# Altium footprint library ThuVien.PcbLib: 14 footprints
Each footprint in its own frame and in the unit in brackets; x right, y up, seen from the top. Pads: shape width x height; smd on the part's side, far side on the other; paste and mask are expansions set on the pad; w line width, h text height; cw(c..) or ccw(c..) is an arc to the next point about the centre after c.
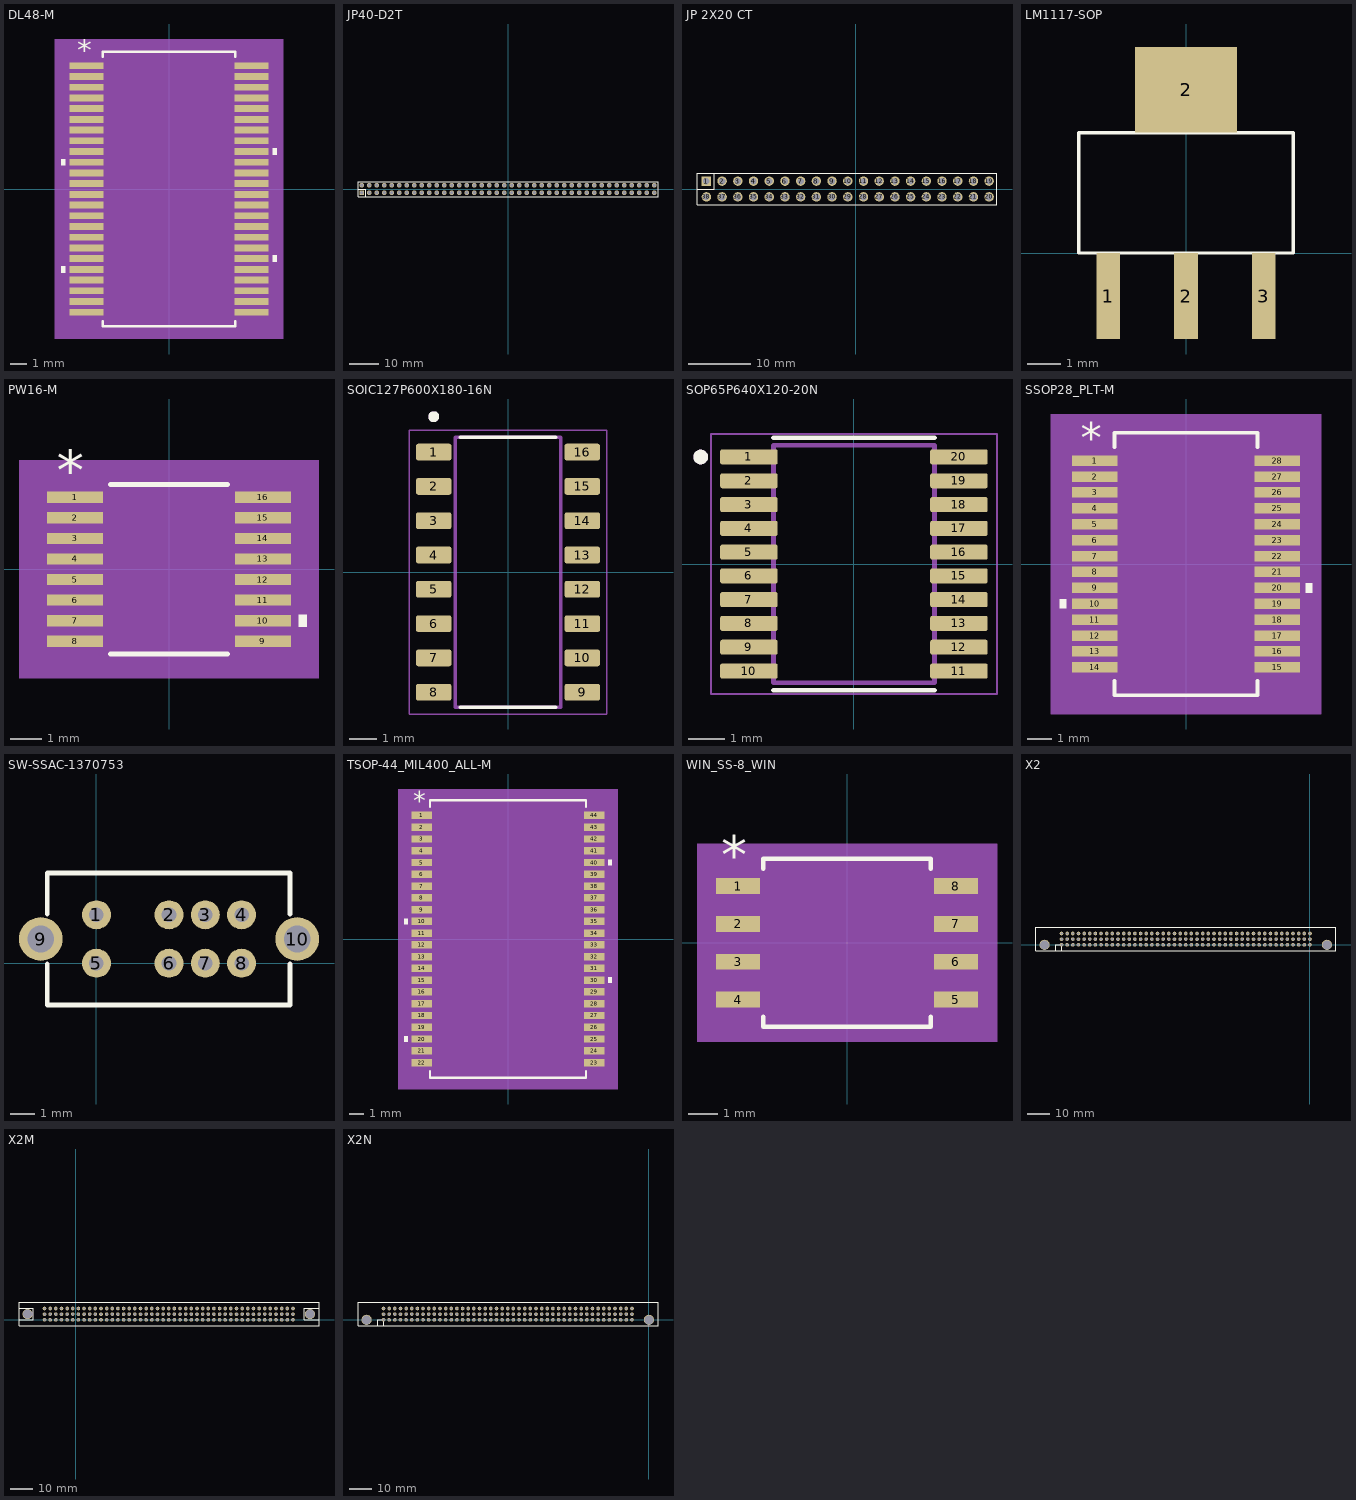
[diagram p0: the footprints below, top view; thin cyan lines are the x and y axes]

## DL48-M [mil]
pads (48):
  rect 79.37x15.97 smd paste+0 mask+0: 1(-191.97,287.5) 2(-191.97,262.5) 3(-191.97,237.5) 4(-191.97,212.5) 5(-191.97,187.5) 6(-191.97,162.5) 7(-191.97,137.5) 8(-191.97,112.5) 9(-191.97,87.5) 10(-191.97,62.5) 11(-191.97,37.5) 12(-191.97,12.5) 13(-191.97,-12.5) 14(-191.97,-37.5) 15(-191.97,-62.5) 16(-191.97,-87.5) 17(-191.97,-112.5) 18(-191.97,-137.5) 19(-191.97,-162.5) 20(-191.97,-187.5) 21(-191.97,-212.5) 22(-191.97,-237.5) 23(-191.97,-262.5) 24(-191.97,-287.5) 25(191.97,-287.5) 26(191.97,-262.5) 27(191.97,-237.5) 28(191.97,-212.5) 29(191.97,-187.5) 30(191.97,-162.5) 31(191.97,-137.5) 32(191.97,-112.5) 33(191.97,-87.5) 34(191.97,-62.5) 35(191.97,-37.5) 36(191.97,-12.5) 37(191.97,12.5) 38(191.97,37.5) 39(191.97,62.5) 40(191.97,87.5) 41(191.97,112.5) 42(191.97,137.5) 43(191.97,162.5) 44(191.97,187.5) 45(191.97,212.5) 46(191.97,237.5) 47(191.97,262.5) 48(191.97,287.5)
Top Overlay:
  region: -241.65,70 -251.65,70 -251.65,55 -241.65,55
  region: -241.65,-180 -251.65,-180 -251.65,-195 -241.65,-195
  region: 241.65,-155 251.65,-155 251.65,-170 241.65,-170
  region: 241.65,95 251.65,95 251.65,80 241.65,80
  lines w6: -154.5,-308.58 -154.5,-320 154.5,-320 154.5,-308.58 ; -154.5,308.58 -154.5,320 154.5,320 154.5,308.58
  text "*" at -214.47,298.47 h50
Mechanical 5:
  region: 266.65,-350 -266.65,-350 -266.65,350 266.65,350
Mechanical 13:
  drawing of 197 lines, arcs and shapes, not listed
  text "*" at -147,262 h50
Mechanical 15:
  region: -169.5,-315.48 -251.65,-315.48 -251.65,315.48 -169.5,315.48 -169.5,335 169.5,335 169.5,315.48 251.65,315.48 251.65,-315.48 169.5,-315.48 169.5,-335 -169.5,-335
  lines w6: -251.65,-315.48 -251.65,315.48 -169.5,315.48 -169.5,335 169.5,335 169.5,315.48 251.65,315.48 251.65,-315.48 169.5,-315.48 169.5,-335 -169.5,-335 -169.5,-315.48 -251.65,-315.48
3D body "DL48.step": height 110.12, standoff 0, extent -210,-315 210,315

## JP40-D2T [mm] "80 pins, dual row, right angled, gold plating"
height 8.54
pads (80):
  rect 1.6x1.6 hole 1.1: 1(-49.53,-1.27)
  round 1.6 hole 1.1: 2(-46.99,-1.27) 3(-44.45,-1.27) 4(-41.91,-1.27) 5(-39.37,-1.27) 6(-36.83,-1.27) 7(-34.29,-1.27) 8(-31.75,-1.27) 9(-29.21,-1.27) 10(-26.67,-1.27) 11(-24.13,-1.27) 12(-21.59,-1.27) 13(-19.05,-1.27) 14(-16.51,-1.27) 15(-13.97,-1.27) 16(-11.43,-1.27) 17(-8.89,-1.27) 18(-6.35,-1.27) 19(-3.81,-1.27) 20(-1.27,-1.27) 21(1.27,-1.27) 22(3.81,-1.27) 23(6.35,-1.27) 24(8.89,-1.27) 25(11.43,-1.27) 26(13.97,-1.27) 27(16.51,-1.27) 28(19.05,-1.27) 29(21.59,-1.27) 30(24.13,-1.27) 31(26.67,-1.27) 32(29.21,-1.27) 33(31.75,-1.27) 34(34.29,-1.27) 35(36.83,-1.27) 36(39.37,-1.27) 37(41.91,-1.27) 38(44.45,-1.27) 39(46.99,-1.27) 40(49.53,-1.27) 41(49.53,1.27) 42(46.99,1.27) 43(44.45,1.27) 44(41.91,1.27) 45(39.37,1.27) 46(36.83,1.27) 47(34.29,1.27) 48(31.75,1.27) 49(29.21,1.27) 50(26.67,1.27) 51(24.13,1.27) 52(21.59,1.27) 53(19.05,1.27) 54(16.51,1.27) 55(13.97,1.27) 56(11.43,1.27) 57(8.89,1.27) 58(6.35,1.27) 59(3.81,1.27) 60(1.27,1.27) 61(-1.27,1.27) 62(-3.81,1.27) 63(-6.35,1.27) 64(-8.89,1.27) 65(-11.43,1.27) 66(-13.97,1.27) 67(-16.51,1.27) 68(-19.05,1.27) 69(-21.59,1.27) 70(-24.13,1.27) 71(-26.67,1.27) 72(-29.21,1.27) 73(-31.75,1.27) 74(-34.29,1.27) 75(-36.83,1.27) 76(-39.37,1.27) 77(-41.91,1.27) 78(-44.45,1.27) 79(-46.99,1.27) 80(-49.53,1.27)
Top Overlay:
  lines w0.2: -50.8,0 -48.26,0 -48.26,-2.54 ; -50.8,-2.54 45.72,-2.54 50.8,-2.54 50.8,2.54 -50.8,2.54 -50.8,-2.54
3D body "61308021121.stp": height 8.55, standoff -2.99, extent -50.8,-2.54 50.8,2.54

## JP 2X20 CT [mm] "40 pins, dual row, straight, gold plating"
height 8.5
pads (38):
  rect 1.52x1.52 hole 1.02: 1(-24.13,1.27)
  round 1.52 hole 1.02: 2(-21.59,1.27) 3(-19.05,1.27) 4(-16.51,1.27) 5(-13.97,1.27) 6(-11.43,1.27) 7(-8.89,1.27) 8(-6.35,1.27) 9(-3.81,1.27) 10(-1.27,1.27) 11(1.27,1.27) 12(3.81,1.27) 13(6.35,1.27) 14(8.89,1.27) 15(11.43,1.27) 16(13.97,1.27) 17(16.51,1.27) 18(19.05,1.27) 19(21.59,1.27) 38(-24.13,-1.27)
  round 1.524 hole 1.1: 20(21.59,-1.27) 21(19.05,-1.27) 22(16.51,-1.27) 23(13.97,-1.27) 24(11.43,-1.27) 25(8.891,-1.27) 26(6.351,-1.27) 27(3.811,-1.27) 28(1.271,-1.27) 29(-1.269,-1.27) 30(-3.809,-1.27) 31(-6.349,-1.27) 32(-8.889,-1.27) 33(-11.429,-1.27) 34(-13.968,-1.27) 35(-16.508,-1.27) 36(-19.048,-1.27) 37(-21.588,-1.27)
Top Overlay:
  lines w0.2: -25.65,0 -22.86,0 -22.86,2.54 ; -25.65,-2.54 -25.65,2.54 22.86,2.54 22.86,1.27 22.86,-1.27 22.86,-2.54 -25.65,-2.54
3D body "61304021821.stp": height 8.51, standoff -3.09, extent -25.65,-2.54 25.65,2.54

## LM1117-SOP [mm]
pads (4):
  rect 0.7x2.54 smd: 1(-2.3,-1.27) 2(0,-1.27) 3(2.3,-1.27)
  rect 3x2.54 smd: 2(0,4.826)
Top Overlay:
  lines w0.1: -3.175,0 -3.175,3.556 3.175,3.556 3.175,0 -3.175,0
3D body "SW3DPS-SOT-223-DEFAULT.step": height 1.68, standoff 0, extent -3.25,-1.778 3.25,5.182

## PW16-M [mm]
pads (16):
  rect 1.762x0.355 smd paste+0 mask+0: 1(-2.971,2.275) 2(-2.971,1.625) 3(-2.971,0.975) 4(-2.971,0.325) 5(-2.971,-0.325) 6(-2.971,-0.975) 7(-2.971,-1.625) 8(-2.971,-2.275) 9(2.971,-2.275) 10(2.971,-1.625) 11(2.971,-0.975) 12(2.971,-0.325) 13(2.971,0.325) 14(2.971,0.975) 15(2.971,1.625) 16(2.971,2.275)
Top Overlay:
  region: 4.106,-1.435 4.36,-1.435 4.36,-1.816 4.106,-1.816
  lines w0.152: -1.847,-2.68 1.847,-2.68 ; -1.847,2.68 1.847,2.68
  text "*" at -3.542,2.503 h1.27
Mechanical 5:
  region: 4.741,-3.442 -4.741,-3.442 -4.741,3.442 4.741,3.442
Mechanical 13:
  lines w0: -0.305,2.553 ccw(c0,2.553) 0.305,2.553
  lines w0.025: -3.302,-2.427 -3.302,-2.123 -2.248,-2.123 -2.248,-2.427 -3.302,-2.427 ; -3.302,-1.777 -3.302,-1.473 -2.248,-1.473 -2.248,-1.777 -3.302,-1.777 ; -3.302,-1.127 -3.302,-0.823 -2.248,-0.823 -2.248,-1.127 -3.302,-1.127 ; -3.302,-0.477 -3.302,-0.173 -2.248,-0.173 -2.248,-0.477 -3.302,-0.477 ; -3.302,0.173 -3.302,0.477 -2.248,0.477 -2.248,0.173 -3.302,0.173 ; -3.302,0.823 -3.302,1.127 -2.248,1.127 -2.248,0.823 -3.302,0.823 ; -3.302,1.473 -3.302,1.777 -2.248,1.777 -2.248,1.473 -3.302,1.473 ; -3.302,2.123 -3.302,2.427 -2.248,2.427 -2.248,2.123 -3.302,2.123 ; -2.248,-2.553 2.248,-2.553 2.248,2.553 -2.248,2.553 -2.248,-2.553 ; 2.248,-2.427 2.248,-2.123 3.302,-2.123 3.302,-2.427 2.248,-2.427 ; 2.248,-1.777 2.248,-1.473 3.302,-1.473 3.302,-1.777 2.248,-1.777 ; 2.248,-1.127 2.248,-0.823 3.302,-0.823 3.302,-1.127 2.248,-1.127 ; 2.248,-0.477 2.248,-0.173 3.302,-0.173 3.302,-0.477 2.248,-0.477 ; 2.248,0.173 2.248,0.477 3.302,0.477 3.302,0.173 2.248,0.173 ; 2.248,0.823 2.248,1.127 3.302,1.127 3.302,0.823 2.248,0.823 ; 2.248,1.473 2.248,1.777 3.302,1.777 3.302,1.473 2.248,1.473 ; 2.248,2.123 2.248,2.427 3.302,2.427 3.302,2.123 2.248,2.123
  text "*" at -2.184,1.206 h1.27
Mechanical 15:
  region: -2.756,-2.96 -4.36,-2.96 -4.36,2.96 -2.756,2.96 -2.756,3.061 2.756,3.061 2.756,2.96 4.36,2.96 4.36,-2.96 2.756,-2.96 2.756,-3.061 -2.756,-3.061
  lines w0.152: -4.36,-2.96 -4.36,2.96 -2.756,2.96 -2.756,3.061 2.756,3.061 2.756,2.96 4.36,2.96 4.36,-2.96 2.756,-2.96 2.756,-3.061 -2.756,-3.061 -2.756,-2.96 -4.36,-2.96
3D body "PW16.step": height 1.2, standoff 0, extent -3.302,-2.553 3.302,2.553

## SOIC127P600X180-16N [mm]
pads (16):
  rrect25% 1.31x0.62 smd: 1(-2.75,4.445) 2(-2.75,3.175) 3(-2.75,1.905) 4(-2.75,0.635) 5(-2.75,-0.635) 6(-2.75,-1.905) 7(-2.75,-3.175) 8(-2.75,-4.445) 9(2.75,-4.445) 10(2.75,-3.175) 11(2.75,-1.905) 12(2.75,-0.635) 13(2.75,0.635) 14(2.75,1.905) 15(2.75,3.175) 16(2.75,4.445)
Top Overlay:
  circle w0.2: c-2.75,5.755 r0.1
  lines w0.127: -1.775,-5 1.775,-5 -1.775,-5 ; -1.775,5 1.775,5 -1.775,5
Mechanical 13:
  circle w0.2: c-2.75,5.755 r0.1
  lines w0.127: -1.95,-5 -1.95,5 1.95,5 1.95,-5 -1.95,-5
Mechanical 15:
  lines w0.05: -3.655,-5.25 3.655,-5.25 3.655,5.25 -3.655,5.25 -3.655,-5.25
3D body "step_temp.STEP": height 1.8, standoff 0, extent -3,-5 3,5

## SOP65P640X120-20N [mm]
pads (20):
  rrect25% 1.57x0.41 smd: 1(-2.87,2.925) 2(-2.87,2.275) 3(-2.87,1.625) 4(-2.87,0.975) 5(-2.87,0.325) 6(-2.87,-0.325) 7(-2.87,-0.975) 8(-2.87,-1.625) 9(-2.87,-2.275) 10(-2.87,-2.925) 11(2.87,-2.925) 12(2.87,-2.275) 13(2.87,-1.625) 14(2.87,-0.975) 15(2.87,-0.325) 16(2.87,0.325) 17(2.87,0.975) 18(2.87,1.625) 19(2.87,2.275) 20(2.87,2.925)
Top Overlay:
  circle w0.2: c-4.19,2.925 r0.1
  lines w0.127: -2.2,-3.45 2.2,-3.45 ; -2.2,3.45 2.2,3.45
Mechanical 13:
  circle w0.2: c-4.19,2.925 r0.1
  lines w0.127: -2.2,-3.25 2.2,-3.25 2.2,3.25 -2.2,3.25 -2.2,-3.25
Mechanical 15:
  lines w0.05: -3.91,-3.55 3.91,-3.55 3.91,3.55 -3.91,3.55 -3.91,-3.55
3D body "step_temp.STEP": height 1.2, standoff 0, extent -3.087,-3.152 3.313,3.348

## SSOP28_PLT-M [mm]
pads (28):
  rect 1.858x0.431 smd paste+0 mask+0: 1(-3.723,4.225) 2(-3.723,3.575) 3(-3.723,2.925) 4(-3.723,2.275) 5(-3.723,1.625) 6(-3.723,0.975) 7(-3.723,0.325) 8(-3.723,-0.325) 9(-3.723,-0.975) 10(-3.723,-1.625) 11(-3.723,-2.275) 12(-3.723,-2.925) 13(-3.723,-3.575) 14(-3.723,-4.225) 15(3.723,-4.225) 16(3.723,-3.575) 17(3.723,-2.925) 18(3.723,-2.275) 19(3.723,-1.625) 20(3.723,-0.975) 21(3.723,-0.325) 22(3.723,0.325) 23(3.723,0.975) 24(3.723,1.625) 25(3.723,2.275) 26(3.723,2.925) 27(3.723,3.575) 28(3.723,4.225)
Top Overlay:
  region: -4.906,-1.434 -5.16,-1.434 -5.16,-1.815 -4.906,-1.815
  region: 4.906,-0.784 5.16,-0.784 5.16,-1.165 4.906,-1.165
  lines w0.152: -2.921,-4.773 -2.921,-5.372 2.921,-5.372 2.921,-4.773 ; -2.921,4.773 -2.921,5.372 2.921,5.372 2.921,4.773
  text "*" at -4.295,4.529 h1.27
Mechanical 5:
  region: 5.541,-6.134 -5.541,-6.134 -5.541,6.134 5.541,6.134
Mechanical 13:
  lines w0: -0.305,5.245 ccw(c0,5.245) 0.305,5.245
  lines w0.025: -4.102,-4.415 -4.102,-4.034 -2.794,-4.034 -2.794,-4.415 -4.102,-4.415 ; -4.102,-3.765 -4.102,-3.384 -2.794,-3.384 -2.794,-3.765 -4.102,-3.765 ; -4.102,-3.115 -4.102,-2.734 -2.794,-2.734 -2.794,-3.115 -4.102,-3.115 ; -4.102,-2.465 -4.102,-2.084 -2.794,-2.084 -2.794,-2.465 -4.102,-2.465 ; -4.102,-1.815 -4.102,-1.434 -2.794,-1.434 -2.794,-1.815 -4.102,-1.815 ; -4.102,-1.165 -4.102,-0.784 -2.794,-0.784 -2.794,-1.165 -4.102,-1.165 ; -4.102,-0.515 -4.102,-0.134 -2.794,-0.134 -2.794,-0.515 -4.102,-0.515 ; -4.102,0.135 -4.102,0.516 -2.794,0.516 -2.794,0.135 -4.102,0.135 ; -4.102,0.784 -4.102,1.165 -2.794,1.165 -2.794,0.784 -4.102,0.784 ; -4.102,1.435 -4.102,1.816 -2.794,1.816 -2.794,1.435 -4.102,1.435 ; -4.102,2.084 -4.102,2.465 -2.794,2.465 -2.794,2.084 -4.102,2.084 ; -4.102,2.735 -4.102,3.116 -2.794,3.116 -2.794,2.735 -4.102,2.735 ; -4.102,3.384 -4.102,3.765 -2.794,3.765 -2.794,3.384 -4.102,3.384 ; -4.102,4.035 -4.102,4.416 -2.794,4.416 -2.794,4.035 -4.102,4.035 ; -2.794,-5.245 2.794,-5.245 2.794,5.245 -2.794,5.245 -2.794,-5.245 ; 2.794,-4.416 2.794,-4.035 4.102,-4.035 4.102,-4.416 2.794,-4.416 ; 2.794,-3.765 2.794,-3.384 4.102,-3.384 4.102,-3.765 2.794,-3.765 ; 2.794,-3.116 2.794,-2.735 4.102,-2.735 4.102,-3.116 2.794,-3.116 ; 2.794,-2.465 2.794,-2.084 4.102,-2.084 4.102,-2.465 2.794,-2.465 ; 2.794,-1.816 2.794,-1.435 4.102,-1.435 4.102,-1.816 2.794,-1.816 ; 2.794,-1.165 2.794,-0.784 4.102,-0.784 4.102,-1.165 2.794,-1.165 ; 2.794,-0.516 2.794,-0.135 4.102,-0.135 4.102,-0.516 2.794,-0.516 ; 2.794,0.135 2.794,0.516 4.102,0.516 4.102,0.135 2.794,0.135 ; 2.794,0.784 2.794,1.165 4.102,1.165 4.102,0.784 2.794,0.784 ; 2.794,1.435 2.794,1.816 4.102,1.816 4.102,1.435 2.794,1.435 ; 2.794,2.084 2.794,2.465 4.102,2.465 4.102,2.084 2.794,2.084 ; 2.794,2.735 2.794,3.116 4.102,3.116 4.102,2.735 2.794,2.735 ; 2.794,3.384 2.794,3.765 4.102,3.765 4.102,3.384 2.794,3.384 ; 2.794,4.035 2.794,4.416 4.102,4.416 4.102,4.035 2.794,4.035
  text "*" at -2.73,3.899 h1.27
Mechanical 15:
  region: -3.302,-4.948 -5.16,-4.948 -5.16,4.948 -3.302,4.948 -3.302,5.753 3.302,5.753 3.302,4.948 5.16,4.948 5.16,-4.948 3.302,-4.948 3.302,-5.753 -3.302,-5.753
  lines w0.152: -5.16,-4.948 -5.16,4.948 -3.302,4.948 -3.302,5.753 3.302,5.753 3.302,4.948 5.16,4.948 5.16,-4.948 3.302,-4.948 3.302,-5.753 -3.302,-5.753 -3.302,-4.948 -5.16,-4.948
3D body "SSOP28_PLT.step": height 2.01, standoff 0, extent -4.102,-5.245 4.102,5.245

## SW-SSAC-1370753 [mm]
pads (10):
  round 1.2 hole 0.6: 1(0,2) 2(3,2) 3(4.5,2) 4(6,2) 5(0,0) 6(3,0) 7(4.5,0) 8(6,0)
  round 1.8 hole 1.1: 9(-2.3,1) 10(8.3,1)
Top Overlay:
  lines w0.203: -2.032,-0.032 -2.032,-1.722 8.001,-1.722 8.001,-0.032 ; -2.032,2.032 -2.032,3.722 8.001,3.722 8.001,2.032

## TSOP-44_MIL400_ALL-M [mm]
pads (44):
  rect 1.375x0.507 smd paste+0 mask+0: 1(-5.869,8.4) 2(-5.869,7.6) 3(-5.869,6.8) 4(-5.869,6) 5(-5.869,5.2) 6(-5.869,4.4) 7(-5.869,3.6) 8(-5.869,2.8) 9(-5.869,2) 10(-5.869,1.2) 11(-5.869,0.4) 12(-5.869,-0.4) 13(-5.869,-1.2) 14(-5.869,-2) 15(-5.869,-2.8) 16(-5.869,-3.6) 17(-5.869,-4.4) 18(-5.869,-5.2) 19(-5.869,-6) 20(-5.869,-6.8) 21(-5.869,-7.6) 22(-5.869,-8.4) 23(5.869,-8.4) 24(5.869,-7.6) 25(5.869,-6.8) 26(5.869,-6) 27(5.869,-5.2) 28(5.869,-4.4) 29(5.869,-3.6) 30(5.869,-2.8) 31(5.869,-2) 32(5.869,-1.2) 33(5.869,-0.4) 34(5.869,0.4) 35(5.869,1.2) 36(5.869,2) 37(5.869,2.8) 38(5.869,3.6) 39(5.869,4.4) 40(5.869,5.2) 41(5.869,6) 42(5.869,6.8) 43(5.869,7.6) 44(5.869,8.4)
Top Overlay:
  region: -6.811,1.391 -7.065,1.391 -7.065,1.01 -6.811,1.01
  region: -6.811,-6.609 -7.065,-6.609 -7.065,-6.99 -6.811,-6.99
  region: 6.811,-2.609 7.065,-2.609 7.065,-2.99 6.811,-2.99
  region: 6.811,5.39 7.065,5.39 7.065,5.009 6.811,5.009
  lines w0.152: -5.309,-8.986 -5.309,-9.436 5.309,-9.436 5.309,-8.986 ; -5.309,8.986 -5.309,9.436 5.309,9.436 5.309,8.986
  text "*" at -6.441,8.78 h1.27
Mechanical 5:
  region: 7.446,-10.198 -7.446,-10.198 -7.446,10.198 7.446,10.198
Mechanical 13:
  drawing of 181 lines, arcs and shapes, not listed
  text "*" at -5.118,7.963 h1.27
Mechanical 15:
  region: -5.69,-9.162 -7.065,-9.162 -7.065,9.162 -5.69,9.162 -5.69,9.817 5.69,9.817 5.69,9.162 7.065,9.162 7.065,-9.162 5.69,-9.162 5.69,-9.817 -5.69,-9.817
  lines w0.152: -7.065,-9.162 -7.065,9.162 -5.69,9.162 -5.69,9.817 5.69,9.817 5.69,9.162 7.065,9.162 7.065,-9.162 5.69,-9.162 5.69,-9.817 -5.69,-9.817 -5.69,-9.162 -7.065,-9.162
3D body "TSOP-44_MIL400_ALL.step": height 1.2, standoff 0, extent -6.007,-9.309 6.007,9.309

## WIN_SS-8_WIN [mil]
pads (8):
  rect 58.56x20.97 smd paste+0 mask+0: 1(-144,75) 2(-144,25) 3(-144,-25) 4(-144,-75) 5(144,-75) 6(144,-25) 7(144,25) 8(144,75)
Top Overlay:
  lines w6: -111,-98.04 -111,-111 111,-111 111,-98.04 ; -111,98.04 -111,111 111,111 111,98.04
  text "*" at -166.5,90.97 h50
Mechanical 5:
  region: 198.28,-131 -198.28,-131 -198.28,131 198.28,131
Mechanical 13:
  lines w0: -12,106 ccw(c0,106) 12,106
  lines w1: -159.5,-84.5 -159.5,-65.5 -106,-65.5 -106,-84.5 -159.5,-84.5 ; -159.5,-34.5 -159.5,-15.5 -106,-15.5 -106,-34.5 -159.5,-34.5 ; -159.5,15.5 -159.5,34.5 -106,34.5 -106,15.5 -159.5,15.5 ; -159.5,65.5 -159.5,84.5 -106,84.5 -106,65.5 -159.5,65.5 ; -106,-106 106,-106 106,106 -106,106 -106,-106 ; 106,-84.5 106,-65.5 159.5,-65.5 159.5,-84.5 106,-84.5 ; 106,-34.5 106,-15.5 159.5,-15.5 159.5,-34.5 106,-34.5 ; 106,15.5 106,34.5 159.5,34.5 159.5,15.5 106,15.5 ; 106,65.5 106,84.5 159.5,84.5 159.5,65.5 106,65.5
  text "*" at -103.5,53 h50
Mechanical 15:
  region: -116,-95.48 -183.28,-95.48 -183.28,95.48 -116,95.48 -116,116 116,116 116,95.48 183.28,95.48 183.28,-95.48 116,-95.48 116,-116 -116,-116
  lines w6: -183.28,-95.48 -183.28,95.48 -116,95.48 -116,116 116,116 116,95.48 183.28,95.48 183.28,-95.48 116,-95.48 116,-116 -116,-116 -116,-95.48 -183.28,-95.48
3D body "WIN_SS-8_WIN.step": height 85.12, standoff 0, extent -159.49,-105.98 159.49,105.98

## X2 [mm]
pads (137):
  round 1.6 hole 1.1: 1(0,0) 2(-2.5,0) 3(-5,0) 4(-7.5,0) 5(-10,0) 6(-12.5,0) 7(-15,0) 8(-17.5,0) 9(-20,0) 10(-22.5,0) 11(-25,0) 12(-27.5,0) 13(-30,0) 14(-32.5,0) 15(-35,0) 16(-37.5,0) 17(-40,0) 18(-42.5,0) 19(-45,0) 20(-47.5,0) 21(-50,0) 22(-52.5,0) 23(-55,0) 24(-57.5,0) 25(-60,0) 26(-62.5,0) 27(-65,0) 28(-67.5,0) 29(-70,0) 30(-72.5,0) 31(-75,0) 32(-77.5,0) 33(-80,0) 34(-82.5,-0.025) 35(-85,0) 36(-87.5,0) 37(-90,0) 38(-92.5,0) 39(-95,0) 40(-97.5,0) 41(-100,0) 42(-102.5,0) 43(-105,0) 44(-107.5,0) 45(-110,0) 46(0,2.5) 47(-2.5,2.5) 48(-5,2.5) 49(-7.5,2.5) 50(-10,2.5) 51(-12.5,2.5) 52(-15,2.5) 53(-17.5,2.5) 54(-20,2.5) 55(-22.5,2.5) 56(-25,2.5) 57(-27.5,2.5) 58(-30,2.5) 59(-32.5,2.5) 60(-35,2.5) 61(-37.5,2.5) 62(-40,2.5) 63(-42.5,2.5) 64(-45,2.5) 65(-47.5,2.5) 66(-50,2.5) 67(-52.5,2.5) 68(-55,2.5) 69(-57.5,2.5) 70(-60,2.5) 71(-62.5,2.5) 72(-65,2.5) 73(-67.5,2.5) 74(-70,2.5) 75(-72.5,2.5) 76(-75,2.5) 77(-77.5,2.5) 78(-80,2.5) 79(-82.5,2.5) 80(-85,2.5) 81(-87.5,2.5) 82(-90,2.5) 83(-92.5,2.5) 84(-95,2.5) 85(-97.5,2.5) 86(-100,2.5) 87(-102.5,2.5) 88(-105,2.5) 89(-107.5,2.5) 90(-110,2.5) 91(0,5) 92(-2.5,5) 93(-5,5) 94(-7.5,5) 95(-10,5) 96(-12.5,5) 97(-15,5) 98(-17.5,5) 99(-20,5) 100(-22.5,5) 101(-25,5) 102(-27.5,5) 103(-30,5) 104(-32.5,5) 105(-35,5) 106(-37.5,5) 107(-40,5) 108(-42.5,5) 109(-45,5) 110(-47.5,5) 111(-50,5) 112(-52.5,5) 113(-55,5) 114(-57.5,5) 115(-60,5) 116(-62.5,5) 117(-65,5) 118(-67.5,5) 119(-70,5) 120(-72.5,5) 121(-75,5) 122(-77.5,5) 123(-80,5) 124(-82.5,5) 125(-85,5) 126(-87.5,5) 127(-90,5) 128(-92.5,5) 129(-95,5) 130(-97.5,5) 131(-100,5) 132(-102.5,5) 133(-105,5) 134(-107.5,5) 135(-110,5)
  round 4.5 hole 4: ""(-117.51,0) ""(7.51,0)
Top Overlay:
  lines w0.254: -112.565,0 -110,0 -110,-2.565 ; -112.54,-2.555 -112.54,0.01 ; -121.3,-2.565 -121.3,7.695 11.52,7.695 11.52,-2.565 -121.3,-2.565

## X2M [mm]
pads (137):
  round 1.6 hole 1.1: 1(96.189,-0.025) 2(93.689,-0.025) 3(91.189,-0.025) 4(88.689,-0.025) 5(86.189,-0.025) 6(83.689,-0.025) 7(81.189,-0.025) 8(78.689,-0.025) 9(76.189,-0.025) 10(73.689,-0.025) 11(71.189,-0.025) 12(68.689,-0.025) 13(66.189,-0.025) 14(63.689,-0.025) 15(61.189,-0.025) 16(58.689,-0.025) 17(56.189,-0.025) 18(53.689,-0.025) 19(51.189,-0.025) 20(48.689,-0.025) 21(46.189,-0.025) 22(43.689,-0.025) 23(41.189,-0.025) 24(38.689,-0.025) 25(36.189,-0.025) 26(33.689,-0.025) 27(31.189,-0.025) 28(28.689,-0.025) 29(26.189,-0.025) 30(23.689,-0.025) 31(21.189,-0.025) 32(18.689,-0.025) 33(16.189,-0.025) 34(13.69,-0.05) 35(11.19,-0.025) 36(8.69,-0.025) 37(6.19,-0.025) 38(3.69,-0.025) 39(1.19,-0.025) 40(-1.31,-0.025) 41(-3.81,-0.025) 42(-6.31,-0.025) 43(-8.81,-0.025) 44(-11.31,-0.025) 45(-13.81,-0.025) 46(96.189,2.475) 47(93.689,2.475) 48(91.189,2.475) 49(88.689,2.475) 50(86.189,2.475) 51(83.689,2.475) 52(81.189,2.475) 53(78.689,2.475) 54(76.189,2.475) 55(73.689,2.475) 56(71.189,2.475) 57(68.689,2.475) 58(66.189,2.475) 59(63.689,2.475) 60(61.189,2.475) 61(58.689,2.475) 62(56.189,2.475) 63(53.689,2.475) 64(51.189,2.475) 65(48.689,2.475) 66(46.189,2.475) 67(43.689,2.475) 68(41.189,2.475) 69(38.689,2.475) 70(36.189,2.475) 71(33.689,2.475) 72(31.189,2.475) 73(28.689,2.475) 74(26.189,2.475) 75(23.689,2.475) 76(21.189,2.475) 77(18.689,2.475) 78(16.189,2.475) 79(13.69,2.475) 80(11.19,2.475) 81(8.69,2.475) 82(6.19,2.475) 83(3.69,2.475) 84(1.19,2.475) 85(-1.31,2.475) 86(-3.81,2.475) 87(-6.31,2.475) 88(-8.81,2.475) 89(-11.31,2.475) 90(-13.81,2.475) 91(96.189,4.975) 92(93.689,4.975) 93(91.189,4.975) 94(88.689,4.975) 95(86.189,4.975) 96(83.689,4.975) 97(81.189,4.975) 98(78.689,4.975) 99(76.189,4.975) 100(73.689,4.975) 101(71.189,4.975) 102(68.689,4.975) 103(66.189,4.975) 104(63.689,4.975) 105(61.189,4.975) 106(58.689,4.975) 107(56.189,4.975) 108(53.689,4.975) 109(51.189,4.975) 110(48.689,4.975) 111(46.189,4.975) 112(43.689,4.975) 113(41.189,4.975) 114(38.689,4.975) 115(36.189,4.975) 116(33.689,4.975) 117(31.189,4.975) 118(28.689,4.975) 119(26.189,4.975) 120(23.689,4.975) 121(21.189,4.975) 122(18.689,4.975) 123(16.189,4.975) 124(13.69,4.975) 125(11.19,4.975) 126(8.69,4.975) 127(6.19,4.975) 128(3.69,4.975) 129(1.19,4.975) 130(-1.31,4.975) 131(-3.81,4.975) 132(-6.31,4.975) 133(-8.81,4.975) 134(-11.31,4.975) 135(-13.81,4.975)
  round 4.5 hole 4: ""(-21.32,2.475) ""(103.7,2.475)
Top Overlay:
  lines w0.254: -25.114,5.064 -18.71,5.064 -18.71,-0.102 ; -25.111,-0.102 -18.708,-0.102 ; 101.273,5.058 107.677,5.058 ; 101.275,5.058 101.275,-0.108 107.679,-0.108 ; -25.11,-2.59 107.71,-2.59 107.71,7.67 -25.11,7.67 -25.11,-2.59

## X2N [mm]
pads (137):
  round 1.6 hole 1.1: 1(-7.51,0) 2(-10.01,0) 3(-12.51,0) 4(-15.01,0) 5(-17.51,0) 6(-20.01,0) 7(-22.51,0) 8(-25.01,0) 9(-27.51,0) 10(-30.01,0) 11(-32.51,0) 12(-35.01,0) 13(-37.51,0) 14(-40.01,0) 15(-42.51,0) 16(-45.01,0) 17(-47.51,0) 18(-50.01,0) 19(-52.51,0) 20(-55.01,0) 21(-57.51,0) 22(-60.01,0) 23(-62.51,0) 24(-65.01,0) 25(-67.51,0) 26(-70.01,0) 27(-72.51,0) 28(-75.01,0) 29(-77.51,0) 30(-80.01,0) 31(-82.51,0) 32(-85.01,0) 33(-87.51,0) 34(-90.01,-0.025) 35(-92.51,0) 36(-95.01,0) 37(-97.51,0) 38(-100.01,0) 39(-102.51,0) 40(-105.01,0) 41(-107.51,0) 42(-110.01,0) 43(-112.51,0) 44(-115.01,0) 45(-117.51,0) 46(-7.51,2.5) 47(-10.01,2.5) 48(-12.51,2.5) 49(-15.01,2.5) 50(-17.51,2.5) 51(-20.01,2.5) 52(-22.51,2.5) 53(-25.01,2.5) 54(-27.51,2.5) 55(-30.01,2.5) 56(-32.51,2.5) 57(-35.01,2.5) 58(-37.51,2.5) 59(-40.01,2.5) 60(-42.51,2.5) 61(-45.01,2.5) 62(-47.51,2.5) 63(-50.01,2.5) 64(-52.51,2.5) 65(-55.01,2.5) 66(-57.51,2.5) 67(-60.01,2.5) 68(-62.51,2.5) 69(-65.01,2.5) 70(-67.51,2.5) 71(-70.01,2.5) 72(-72.51,2.5) 73(-75.01,2.5) 74(-77.51,2.5) 75(-80.01,2.5) 76(-82.51,2.5) 77(-85.01,2.5) 78(-87.51,2.5) 79(-90.01,2.5) 80(-92.51,2.5) 81(-95.01,2.5) 82(-97.51,2.5) 83(-100.01,2.5) 84(-102.51,2.5) 85(-105.01,2.5) 86(-107.51,2.5) 87(-110.01,2.5) 88(-112.51,2.5) 89(-115.01,2.5) 90(-117.51,2.5) 91(-7.51,5) 92(-10.01,5) 93(-12.51,5) 94(-15.01,5) 95(-17.51,5) 96(-20.01,5) 97(-22.51,5) 98(-25.01,5) 99(-27.51,5) 100(-30.01,5) 101(-32.51,5) 102(-35.01,5) 103(-37.51,5) 104(-40.01,5) 105(-42.51,5) 106(-45.01,5) 107(-47.51,5) 108(-50.01,5) 109(-52.51,5) 110(-55.01,5) 111(-57.51,5) 112(-60.01,5) 113(-62.51,5) 114(-65.01,5) 115(-67.51,5) 116(-70.01,5) 117(-72.51,5) 118(-75.01,5) 119(-77.51,5) 120(-80.01,5) 121(-82.51,5) 122(-85.01,5) 123(-87.51,5) 124(-90.01,5) 125(-92.51,5) 126(-95.01,5) 127(-97.51,5) 128(-100.01,5) 129(-102.51,5) 130(-105.01,5) 131(-107.51,5) 132(-110.01,5) 133(-112.51,5) 134(-115.01,5) 135(-117.51,5)
  round 4.5 hole 4: ""(-125.02,0) ""(0,0)
Top Overlay:
  lines w0.254: -120.075,0 -117.51,0 -117.51,-2.565 ; -120.05,-2.555 -120.05,0.01 ; -128.81,-2.565 -128.81,7.695 4.01,7.695 4.01,-2.565 -128.81,-2.565
3D body "jummmm.stp": height 3.32, standoff -10, extent -128.73,-16.592 4.27,5.334